# Altium schematic symbol library SCH - SSR - PANASONIC CxR10_CxR5.SchLib: 1 symbol
Pins are listed as number, name and electrical type; pins without a type are passive.

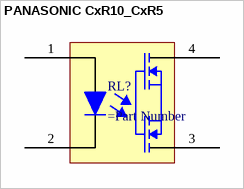
[diagram p0: symbol PANASONIC CxR10_CxR5]

## PANASONIC CxR10_CxR5
designator RL?
pins: 1, 2, 3, 4